# Altium footprint library BGA_CSP_LGA.PcbLib: 16 footprints
Each footprint in its own frame and in the unit in brackets; x right, y up, seen from the top. Pads: shape width x height; smd on the part's side, far side on the other; paste and mask are expansions set on the pad; w line width, h text height; cw(c..) or ccw(c..) is an arc to the next point about the centre after c.
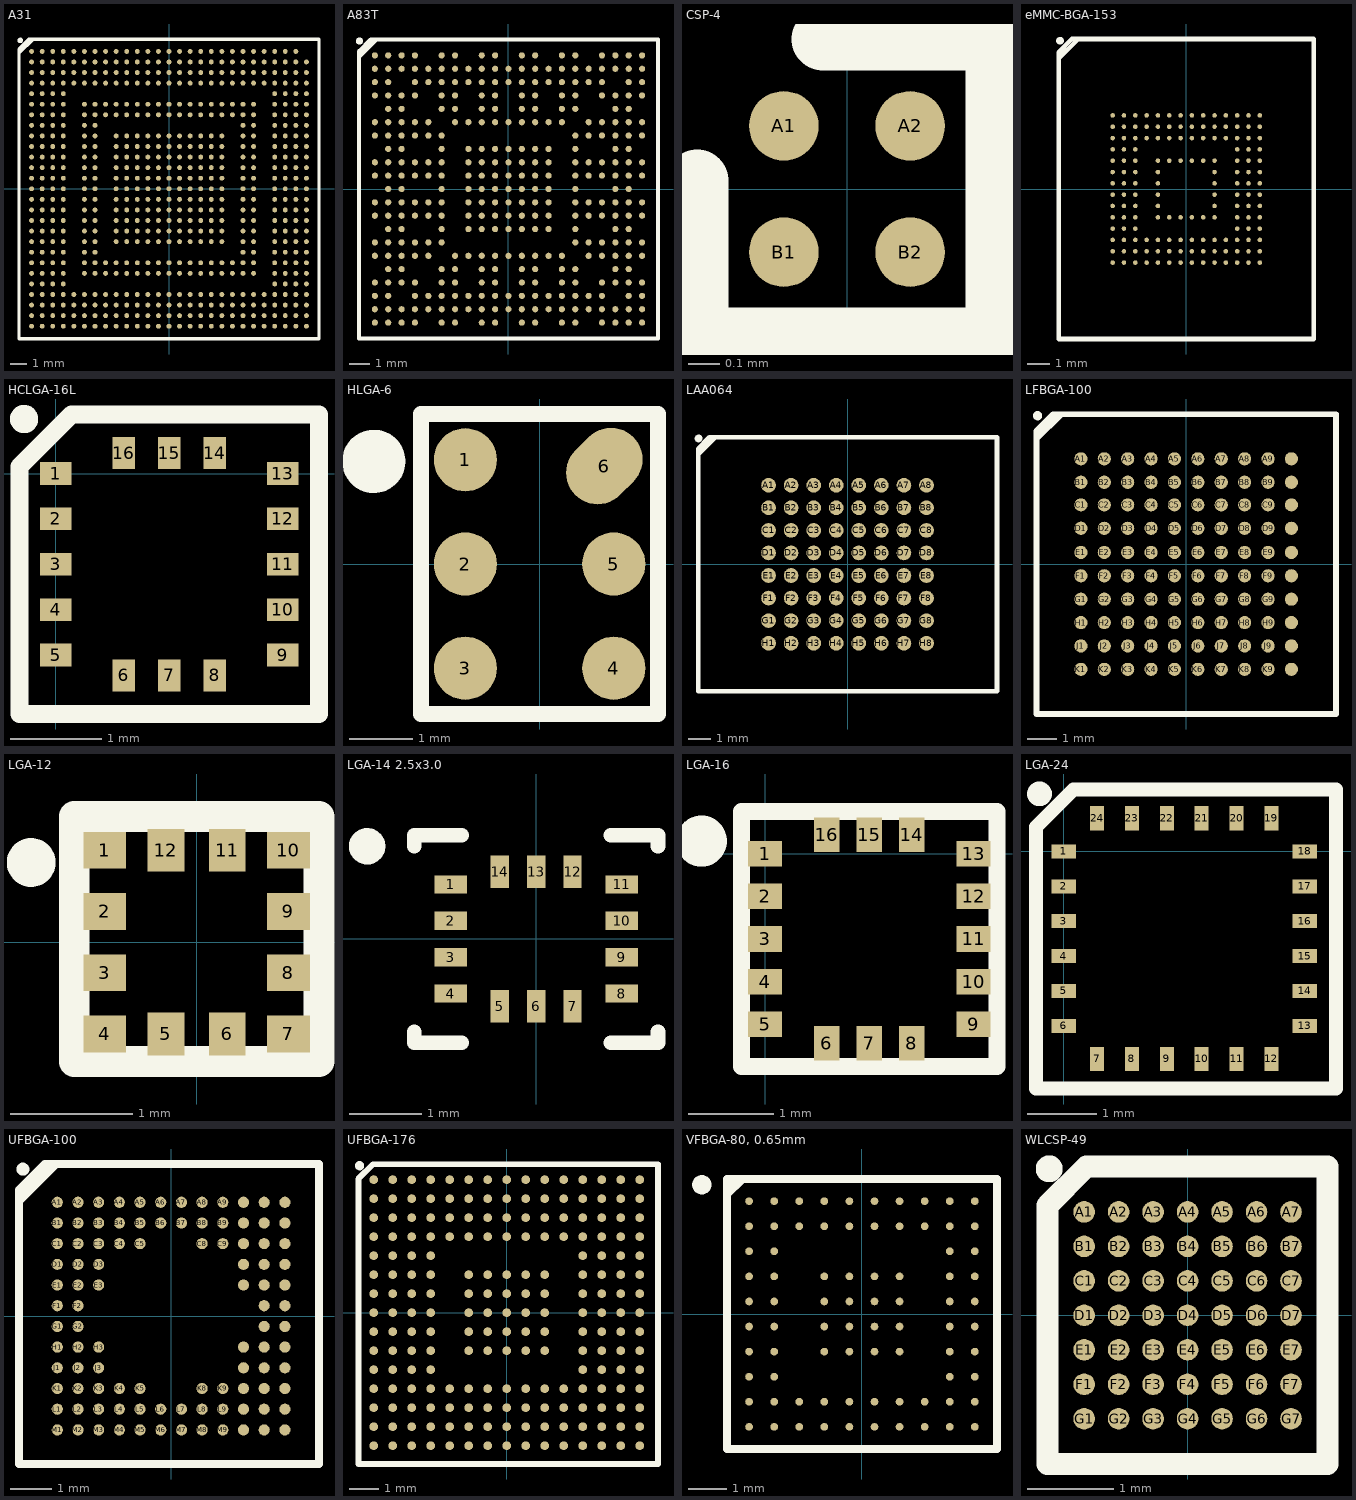
[diagram p0: the footprints below, top view; thin cyan lines are the x and y axes]

## A31 [mm]
pads (608):
  round 0.3 smd: A1(-8.45,8.45) A2(-7.8,8.45) A3(-7.15,8.45) A4(-6.5,8.45) A5(-5.85,8.45) A6(-5.2,8.45) A7(-4.55,8.45) A8(-3.9,8.45) A9(-3.25,8.45) A10(-2.6,8.45) A11(-1.95,8.45) A12(-1.3,8.45) A13(-0.65,8.45) A14(0,8.45) A15(0.65,8.45) A16(1.3,8.45) A17(1.95,8.45) A18(2.6,8.45) A19(3.25,8.45) A20(3.9,8.45) A21(4.55,8.45) A22(5.2,8.45) A23(5.85,8.45) A24(6.5,8.45) A25(7.15,8.45) A26(7.8,8.45) AA1(-8.45,-4.55) AA2(-7.8,-4.55) AA3(-7.15,-4.55) AA4(-6.5,-4.55) AA6(-5.2,-4.55) AA7(-4.55,-4.55) AA8(-3.9,-4.55) AA9(-3.25,-4.55) AA10(-2.6,-4.55) AA11(-1.95,-4.55) AA12(-1.3,-4.55) AA13(-0.65,-4.55) AA14(0,-4.55) AA15(0.65,-4.55) AA16(1.3,-4.55) AA17(1.95,-4.55) AA18(2.6,-4.55) AA19(3.25,-4.55) AA20(3.9,-4.55) AA21(4.55,-4.55) AA22(5.2,-4.55) AA24(6.5,-4.55) AA25(7.15,-4.55) AA26(7.8,-4.55) AA27(8.45,-4.55) AB1(-8.45,-5.2) AB2(-7.8,-5.2) AB3(-7.15,-5.2) AB4(-6.5,-5.2) AB6(-5.2,-5.2) AB7(-4.55,-5.2) AB8(-3.9,-5.2) AB9(-3.25,-5.2) AB10(-2.6,-5.2) AB11(-1.95,-5.2) AB12(-1.3,-5.2) AB13(-0.65,-5.2) AB14(0,-5.2) AB15(0.65,-5.2) AB16(1.3,-5.2) AB17(1.95,-5.2) AB18(2.6,-5.2) AB19(3.25,-5.2) AB20(3.9,-5.2) AB21(4.55,-5.2) AB22(5.2,-5.2) AB24(6.5,-5.2) AB25(7.15,-5.2) AB26(7.8,-5.2) AB27(8.45,-5.2) AC1(-8.45,-5.85) AC2(-7.8,-5.85) AC3(-7.15,-5.85) AC4(-6.5,-5.85) AC24(6.5,-5.85) AC25(7.15,-5.85) AC26(7.8,-5.85) AC27(8.45,-5.85) AD1(-8.45,-6.5) AD2(-7.8,-6.5) AD3(-7.15,-6.5) AD4(-6.5,-6.5) AD5(-5.85,-6.5) AD6(-5.2,-6.5) AD7(-4.55,-6.5) AD8(-3.9,-6.5) AD9(-3.25,-6.5) AD10(-2.6,-6.5) AD11(-1.95,-6.5) AD12(-1.3,-6.5) AD13(-0.65,-6.5) AD14(0,-6.5) AD15(0.65,-6.5) AD16(1.3,-6.5) AD17(1.95,-6.5) AD18(2.6,-6.5) AD19(3.25,-6.5) AD20(3.9,-6.5) AD21(4.55,-6.5) AD22(5.2,-6.5) AD23(5.85,-6.5) AD24(6.5,-6.5) AD25(7.15,-6.5) AD26(7.8,-6.5) AD27(8.45,-6.5) AE1(-8.45,-7.15) AE2(-7.8,-7.15) AE3(-7.15,-7.15) AE4(-6.5,-7.15) AE5(-5.85,-7.15) AE6(-5.2,-7.15) AE7(-4.55,-7.15) AE8(-3.9,-7.15) AE9(-3.25,-7.15) AE10(-2.6,-7.15) AE11(-1.95,-7.15) AE12(-1.3,-7.15) AE13(-0.65,-7.15) AE14(0,-7.15) AE15(0.65,-7.15) AE16(1.3,-7.15) AE17(1.95,-7.15) AE18(2.6,-7.15) AE19(3.25,-7.15) AE20(3.9,-7.15) AE21(4.55,-7.15) AE22(5.2,-7.15) AE23(5.85,-7.15) AE24(6.5,-7.15) AE25(7.15,-7.15) AE26(7.8,-7.15) AE27(8.45,-7.15) AF1(-8.45,-7.8) AF2(-7.8,-7.8) AF3(-7.15,-7.8) AF4(-6.5,-7.8) AF5(-5.85,-7.8) AF6(-5.2,-7.8) AF7(-4.55,-7.8) AF8(-3.9,-7.8) AF9(-3.25,-7.8) AF10(-2.6,-7.8) AF11(-1.95,-7.8) AF12(-1.3,-7.8) AF13(-0.65,-7.8) AF14(0,-7.8) AF15(0.65,-7.8) AF16(1.3,-7.8) AF17(1.95,-7.8) AF18(2.6,-7.8) AF19(3.25,-7.8) AF20(3.9,-7.8) AF21(4.55,-7.8) AF22(5.2,-7.8) AF23(5.85,-7.8) AF24(6.5,-7.8) AF25(7.15,-7.8) AF26(7.8,-7.8) AF27(8.45,-7.8) AG1(-8.45,-8.45) AG2(-7.8,-8.45) AG3(-7.15,-8.45) AG4(-6.5,-8.45) AG5(-5.85,-8.45) AG6(-5.2,-8.45) AG7(-4.55,-8.45) AG8(-3.9,-8.45) AG9(-3.25,-8.45) AG10(-2.6,-8.45) AG11(-1.95,-8.45) AG12(-1.3,-8.45) AG13(-0.65,-8.45) AG14(0,-8.45) AG15(0.65,-8.45) AG16(1.3,-8.45) AG17(1.95,-8.45) AG18(2.6,-8.45) AG19(3.25,-8.45) AG20(3.9,-8.45) AG21(4.55,-8.45) AG22(5.2,-8.45) AG23(5.85,-8.45) AG24(6.5,-8.45) AG25(7.15,-8.45) AG26(7.8,-8.45) AG27(8.45,-8.45) B1(-8.45,7.8) B2(-7.8,7.8) B3(-7.15,7.8) B4(-6.5,7.8) B5(-5.85,7.8) B6(-5.2,7.8) B7(-4.55,7.8) B8(-3.9,7.8) B9(-3.25,7.8) B10(-2.6,7.8) B11(-1.95,7.8) B12(-1.3,7.8) B13(-0.65,7.8) B14(0,7.8) B15(0.65,7.8) B16(1.3,7.8) B17(1.95,7.8) B18(2.6,7.8) B19(3.25,7.8) B20(3.9,7.8) B21(4.55,7.8) B22(5.2,7.8) B23(5.85,7.8) B24(6.5,7.8) B25(7.15,7.8) B26(7.8,7.8) B27(8.45,7.8) C1(-8.45,7.15) C2(-7.8,7.15) C3(-7.15,7.15) C4(-6.5,7.15) C5(-5.85,7.15) C6(-5.2,7.15) C7(-4.55,7.15) C8(-3.9,7.15) C9(-3.25,7.15) C10(-2.6,7.15) C11(-1.95,7.15) C12(-1.3,7.15) C13(-0.65,7.15) C14(0,7.15) C15(0.65,7.15) C16(1.3,7.15) C17(1.95,7.15) C18(2.6,7.15) C19(3.25,7.15) C20(3.9,7.15) C21(4.55,7.15) C22(5.2,7.15) C23(5.85,7.15) C24(6.5,7.15) C25(7.15,7.15) C26(7.8,7.15) C27(8.45,7.15) D1(-8.45,6.5) D2(-7.8,6.5) D3(-7.15,6.5) D4(-6.5,6.5) D5(-5.85,6.5) D6(-5.2,6.5) D7(-4.55,6.5) D8(-3.9,6.5) D9(-3.25,6.5) D10(-2.6,6.5) D11(-1.95,6.5) D12(-1.3,6.5) D13(-0.65,6.5) D14(0,6.5) D15(0.65,6.5) D16(1.3,6.5) D17(1.95,6.5) D18(2.6,6.5) D19(3.25,6.5) D20(3.9,6.5) D21(4.55,6.5) D22(5.2,6.5) D23(5.85,6.5) D24(6.5,6.5) D25(7.15,6.5) D26(7.8,6.5) D27(8.45,6.5) E1(-8.45,5.85) E2(-7.8,5.85) E3(-7.15,5.85) E4(-6.5,5.85) E24(6.5,5.85) E25(7.15,5.85) E26(7.8,5.85) E27(8.45,5.85) F1(-8.45,5.2) F2(-7.8,5.2) F3(-7.15,5.2) F4(-6.5,5.2) F6(-5.2,5.2) F7(-4.55,5.2) F8(-3.9,5.2) F9(-3.25,5.2) F10(-2.6,5.2) F11(-1.95,5.2) F12(-1.3,5.2) F13(-0.65,5.2) F14(0,5.2) F15(0.65,5.2) F16(1.3,5.2) F17(1.95,5.2) F18(2.6,5.2) F19(3.25,5.2) F20(3.9,5.2) F21(4.55,5.2) F22(5.2,5.2) F24(6.5,5.2) F25(7.15,5.2) F26(7.8,5.2) F27(8.45,5.2) G1(-8.45,4.55) G2(-7.8,4.55) G3(-7.15,4.55) G4(-6.5,4.55) G6(-5.2,4.55) G7(-4.55,4.55) G8(-3.9,4.55) G9(-3.25,4.55) G10(-2.6,4.55) G11(-1.95,4.55) G12(-1.3,4.55) G13(-0.65,4.55) G14(0,4.55) G15(0.65,4.55) G16(1.3,4.55) G17(1.95,4.55) G18(2.6,4.55) G19(3.25,4.55) G20(3.9,4.55) G21(4.55,4.55) G22(5.2,4.55) G24(6.5,4.55) G25(7.15,4.55) G26(7.8,4.55) G27(8.45,4.55) H1(-8.45,3.9) H2(-7.8,3.9) H3(-7.15,3.9) H4(-6.5,3.9) H6(-5.2,3.9) H7(-4.55,3.9) H21(4.55,3.9) H22(5.2,3.9) H24(6.5,3.9) H25(7.15,3.9) H26(7.8,3.9) H27(8.45,3.9) J1(-8.45,3.25) J2(-7.8,3.25) J3(-7.15,3.25) J4(-6.5,3.25) J6(-5.2,3.25) J7(-4.55,3.25) J9(-3.25,3.25) J10(-2.6,3.25) J11(-1.95,3.25) J12(-1.3,3.25) J13(-0.65,3.25) J14(0,3.25) J15(0.65,3.25) J16(1.3,3.25) J17(1.95,3.25) J18(2.6,3.25) J19(3.25,3.25) J21(4.55,3.25) J22(5.2,3.25) J24(6.5,3.25) J25(7.15,3.25) J26(7.8,3.25) J27(8.45,3.25) K1(-8.45,2.6) K2(-7.8,2.6) K3(-7.15,2.6) K4(-6.5,2.6) K6(-5.2,2.6) K7(-4.55,2.6) K9(-3.25,2.6) K10(-2.6,2.6) K11(-1.95,2.6) K12(-1.3,2.6) K13(-0.65,2.6) K14(0,2.6) K15(0.65,2.6) K16(1.3,2.6) K17(1.95,2.6) K18(2.6,2.6) K19(3.25,2.6) K21(4.55,2.6) K22(5.2,2.6) K24(6.5,2.6) K25(7.15,2.6) K26(7.8,2.6) K27(8.45,2.6) L1(-8.45,1.95) L2(-7.8,1.95) L3(-7.15,1.95) L4(-6.5,1.95) L6(-5.2,1.95) L7(-4.55,1.95) L9(-3.25,1.95) L10(-2.6,1.95) L11(-1.95,1.95) L12(-1.3,1.95) L13(-0.65,1.95) L14(0,1.95) L15(0.65,1.95) L16(1.3,1.95) L17(1.95,1.95) L18(2.6,1.95) L19(3.25,1.95) L21(4.55,1.95) L22(5.2,1.95) L24(6.5,1.95) L25(7.15,1.95) L26(7.8,1.95) L27(8.45,1.95) M1(-8.45,1.3) M2(-7.8,1.3) M3(-7.15,1.3) M4(-6.5,1.3) M6(-5.2,1.3) M7(-4.55,1.3) M9(-3.25,1.3) M10(-2.6,1.3) M11(-1.95,1.3) M12(-1.3,1.3) M13(-0.65,1.3) M14(0,1.3) M15(0.65,1.3) M16(1.3,1.3) M17(1.95,1.3) M18(2.6,1.3) M19(3.25,1.3) M21(4.55,1.3) M22(5.2,1.3) M24(6.5,1.3) M25(7.15,1.3) M26(7.8,1.3) M27(8.45,1.3) N1(-8.45,0.65) N2(-7.8,0.65) N3(-7.15,0.65) N4(-6.5,0.65) N6(-5.2,0.65) N7(-4.55,0.65) N9(-3.25,0.65) N10(-2.6,0.65) N11(-1.95,0.65) N12(-1.3,0.65) N13(-0.65,0.65) N14(0,0.65) N15(0.65,0.65) N16(1.3,0.65) N17(1.95,0.65) N18(2.6,0.65) N19(3.25,0.65) N21(4.55,0.65) N22(5.2,0.65) N24(6.5,0.65) N25(7.15,0.65) N26(7.8,0.65) N27(8.45,0.65) P1(-8.45,0) P2(-7.8,0) P3(-7.15,0) P4(-6.5,0) P6(-5.2,0) P7(-4.55,0) P9(-3.25,0) P10(-2.6,0) P11(-1.95,0) P12(-1.3,0) P13(-0.65,0) P14(0,0) P15(0.65,0) P16(1.3,0) P17(1.95,0) P18(2.6,0) P19(3.25,0) P21(4.55,0) P22(5.2,0) P24(6.5,0) P25(7.15,0) P26(7.8,0) P27(8.45,0) R1(-8.45,-0.65) R2(-7.8,-0.65) R3(-7.15,-0.65) R4(-6.5,-0.65) R6(-5.2,-0.65) R7(-4.55,-0.65) R9(-3.25,-0.65) R10(-2.6,-0.65) R11(-1.95,-0.65) R12(-1.3,-0.65) R13(-0.65,-0.65) R14(0,-0.65) R15(0.65,-0.65) R16(1.3,-0.65) R17(1.95,-0.65) R18(2.6,-0.65) R19(3.25,-0.65) R21(4.55,-0.65) R22(5.2,-0.65) R24(6.5,-0.65) R25(7.15,-0.65) R26(7.8,-0.65) R27(8.45,-0.65) T1(-8.45,-1.3) T2(-7.8,-1.3) T3(-7.15,-1.3) T4(-6.5,-1.3) T6(-5.2,-1.3) T7(-4.55,-1.3) T9(-3.25,-1.3) T10(-2.6,-1.3) T11(-1.95,-1.3) T12(-1.3,-1.3) T13(-0.65,-1.3) T14(0,-1.3) T15(0.65,-1.3) T16(1.3,-1.3) T17(1.95,-1.3) T18(2.6,-1.3) T19(3.25,-1.3) T21(4.55,-1.3) T22(5.2,-1.3) T24(6.5,-1.3) T25(7.15,-1.3) T26(7.8,-1.3) T27(8.45,-1.3) U1(-8.45,-1.95) U2(-7.8,-1.95) U3(-7.15,-1.95) U4(-6.5,-1.95) U6(-5.2,-1.95) U7(-4.55,-1.95) U9(-3.25,-1.95) U10(-2.6,-1.95) U11(-1.95,-1.95) U12(-1.3,-1.95) U13(-0.65,-1.95) U14(0,-1.95) U15(0.65,-1.95) U16(1.3,-1.95) U17(1.95,-1.95) U18(2.6,-1.95) U19(3.25,-1.95) U21(4.55,-1.95) U22(5.2,-1.95) U24(6.5,-1.95) U25(7.15,-1.95) U26(7.8,-1.95) U27(8.45,-1.95) V1(-8.45,-2.6) V2(-7.8,-2.6) V3(-7.15,-2.6) V4(-6.5,-2.6) V6(-5.2,-2.6) V7(-4.55,-2.6) V9(-3.25,-2.6) V10(-2.6,-2.6) V11(-1.95,-2.6) V12(-1.3,-2.6) V13(-0.65,-2.6) V14(0,-2.6) V15(0.65,-2.6) V16(1.3,-2.6) V17(1.95,-2.6) V18(2.6,-2.6) V19(3.25,-2.6) V21(4.55,-2.6) V22(5.2,-2.6) V24(6.5,-2.6) V25(7.15,-2.6) V26(7.8,-2.6) V27(8.45,-2.6) W1(-8.45,-3.25) W2(-7.8,-3.25) W3(-7.15,-3.25) W4(-6.5,-3.25) W6(-5.2,-3.25) W7(-4.55,-3.25) W9(-3.25,-3.25) W10(-2.6,-3.25) W11(-1.95,-3.25) W12(-1.3,-3.25) W13(-0.65,-3.25) W14(0,-3.25) W15(0.65,-3.25) W16(1.3,-3.25) W17(1.95,-3.25) W18(2.6,-3.25) W19(3.25,-3.25) W21(4.55,-3.25) W22(5.2,-3.25) W24(6.5,-3.25) W25(7.15,-3.25) W26(7.8,-3.25) W27(8.45,-3.25) Y1(-8.45,-3.9) Y2(-7.8,-3.9) Y3(-7.15,-3.9) Y4(-6.5,-3.9) Y6(-5.2,-3.9) Y7(-4.55,-3.9) Y21(4.55,-3.9) Y22(5.2,-3.9) Y24(6.5,-3.9) Y25(7.15,-3.9) Y26(7.8,-3.9) Y27(8.45,-3.9)
Top Overlay:
  circle w0.2: c-9.15,9.125 r0.071
  lines w0.2: -9.225,8.6 -9.225,-9.225 9.225,-9.225 9.225,9.2 -8.625,9.2 -9.2,8.625 ; -9.2,8.35 -8.35,9.2
3D body: height 1.2, standoff 0, extent -9.1,-9.1 9.1,9.1

## A83T [mm]
pads (345):
  round 0.3 smd: A1(-6.5,6.5) A2(-5.85,6.5) A3(-5.2,6.5) A4(-4.55,6.5) A6(-3.25,6.5) A7(-2.6,6.5) A9(-1.3,6.5) A10(-0.65,6.5) A12(0.65,6.5) A13(1.3,6.5) A15(2.6,6.5) A16(3.25,6.5) A18(4.55,6.5) A19(5.2,6.5) A20(5.85,6.5) A21(6.5,6.5) AA1(-6.5,-6.5) AA2(-5.85,-6.5) AA3(-5.2,-6.5) AA4(-4.55,-6.5) AA6(-3.25,-6.5) AA7(-2.6,-6.5) AA9(-1.3,-6.5) AA10(-0.65,-6.5) AA12(0.65,-6.5) AA13(1.3,-6.5) AA15(2.6,-6.5) AA16(3.25,-6.5) AA18(4.55,-6.5) AA19(5.2,-6.5) AA20(5.85,-6.5) AA21(6.5,-6.5) B1(-6.5,5.85) B2(-5.85,5.85) B3(-5.2,5.85) B4(-4.55,5.85) B5(-3.9,5.85) B6(-3.25,5.85) B7(-2.6,5.85) B8(-1.95,5.85) B9(-1.3,5.85) B10(-0.65,5.85) B11(0,5.85) B12(0.65,5.85) B13(1.3,5.85) B14(1.95,5.85) B15(2.6,5.85) B16(3.25,5.85) B17(3.9,5.85) B18(4.55,5.85) B19(5.2,5.85) B20(5.85,5.85) B21(6.5,5.85) C1(-6.5,5.2) C2(-5.85,5.2) C4(-4.55,5.2) C5(-3.9,5.2) C6(-3.25,5.2) C7(-2.6,5.2) C8(-1.95,5.2) C9(-1.3,5.2) C10(-0.65,5.2) C11(0,5.2) C12(0.65,5.2) C13(1.3,5.2) C14(1.95,5.2) C15(2.6,5.2) C16(3.25,5.2) C17(3.9,5.2) C18(4.55,5.2) C20(5.85,5.2) C21(6.5,5.2) D1(-6.5,4.55) D2(-5.85,4.55) D3(-5.2,4.55) D4(-4.55,4.55) D6(-3.25,4.55) D7(-2.6,4.55) D9(-1.3,4.55) D10(-0.65,4.55) D12(0.65,4.55) D13(1.3,4.55) D15(2.6,4.55) D16(3.25,4.55) D18(4.55,4.55) D19(5.2,4.55) D20(5.85,4.55) D21(6.5,4.55) E2(-5.85,3.9) E3(-5.2,3.9) E6(-3.25,3.9) E7(-2.6,3.9) E9(-1.3,3.9) E10(-0.65,3.9) E12(0.65,3.9) E13(1.3,3.9) E15(2.6,3.9) E16(3.25,3.9) E19(5.2,3.9) E20(5.85,3.9) F1(-6.5,3.25) F2(-5.85,3.25) F3(-5.2,3.25) F4(-4.55,3.25) F5(-3.9,3.25) F7(-2.6,3.25) F8(-1.95,3.25) F9(-1.3,3.25) F10(-0.65,3.25) F11(0,3.25) F12(0.65,3.25) F13(1.3,3.25) F14(1.95,3.25) F15(2.6,3.25) F17(3.9,3.25) F18(4.55,3.25) F19(5.2,3.25) F20(5.85,3.25) F21(6.5,3.25) G1(-6.5,2.6) G2(-5.85,2.6) G3(-5.2,2.6) G4(-4.55,2.6) G5(-3.9,2.6) G6(-3.25,2.6) G16(3.25,2.6) G17(3.9,2.6) G18(4.55,2.6) G19(5.2,2.6) G20(5.85,2.6) G21(6.5,2.6) H2(-5.85,1.95) H3(-5.2,1.95) H6(-3.25,1.95) H8(-1.95,1.95) H9(-1.3,1.95) H10(-0.65,1.95) H11(0,1.95) H12(0.65,1.95) H13(1.3,1.95) H14(1.95,1.95) H16(3.25,1.95) H19(5.2,1.95) H20(5.85,1.95) J1(-6.5,1.3) J2(-5.85,1.3) J3(-5.2,1.3) J4(-4.55,1.3) J5(-3.9,1.3) J6(-3.25,1.3) J8(-1.95,1.3) J9(-1.3,1.3) J10(-0.65,1.3) J11(0,1.3) J12(0.65,1.3) J13(1.3,1.3) J14(1.95,1.3) J16(3.25,1.3) J17(3.9,1.3) J18(4.55,1.3) J19(5.2,1.3) J20(5.85,1.3) J21(6.5,1.3) K1(-6.5,0.65) K2(-5.85,0.65) K3(-5.2,0.65) K4(-4.55,0.65) K5(-3.9,0.65) K6(-3.25,0.65) K8(-1.95,0.65) K9(-1.3,0.65) K10(-0.65,0.65) K11(0,0.65) K12(0.65,0.65) K13(1.3,0.65) K14(1.95,0.65) K16(3.25,0.65) K17(3.9,0.65) K18(4.55,0.65) K19(5.2,0.65) K20(5.85,0.65) K21(6.5,0.65) L2(-5.85,0) L3(-5.2,0) L6(-3.25,0) L8(-1.95,0) L9(-1.3,0) L10(-0.65,0) L11(0,0) L12(0.65,0) L13(1.3,0) L14(1.95,0) L16(3.25,0) L19(5.2,0) L20(5.85,0) M1(-6.5,-0.65) M2(-5.85,-0.65) M3(-5.2,-0.65) M4(-4.55,-0.65) M5(-3.9,-0.65) M6(-3.25,-0.65) M8(-1.95,-0.65) M9(-1.3,-0.65) M10(-0.65,-0.65) M11(0,-0.65) M12(0.65,-0.65) M13(1.3,-0.65) M14(1.95,-0.65) M16(3.25,-0.65) M17(3.9,-0.65) M18(4.55,-0.65) M19(5.2,-0.65) M20(5.85,-0.65) M21(6.5,-0.65) N1(-6.5,-1.3) N2(-5.85,-1.3) N3(-5.2,-1.3) N4(-4.55,-1.3) N5(-3.9,-1.3) N6(-3.25,-1.3) N8(-1.95,-1.3) N9(-1.3,-1.3) N10(-0.65,-1.3) N11(0,-1.3) N12(0.65,-1.3) N13(1.3,-1.3) N14(1.95,-1.3) N16(3.25,-1.3) N17(3.9,-1.3) N18(4.55,-1.3) N19(5.2,-1.3) N20(5.85,-1.3) N21(6.5,-1.3) P2(-5.85,-1.95) P3(-5.2,-1.95) P6(-3.25,-1.95) P8(-1.95,-1.95) P9(-1.3,-1.95) P10(-0.65,-1.95) P11(0,-1.95) P12(0.65,-1.95) P13(1.3,-1.95) P14(1.95,-1.95) P16(3.25,-1.95) P19(5.2,-1.95) P20(5.85,-1.95) R1(-6.5,-2.6) R2(-5.85,-2.6) R3(-5.2,-2.6) R4(-4.55,-2.6) R5(-3.9,-2.6) R6(-3.25,-2.6) R16(3.25,-2.6) R17(3.9,-2.6) R18(4.55,-2.6) R19(5.2,-2.6) R20(5.85,-2.6) R21(6.5,-2.6) T1(-6.5,-3.25) T2(-5.85,-3.25) T3(-5.2,-3.25) T4(-4.55,-3.25) T5(-3.9,-3.25) T7(-2.6,-3.25) T8(-1.95,-3.25) T9(-1.3,-3.25) T10(-0.65,-3.25) T11(0,-3.25) T12(0.65,-3.25) T13(1.3,-3.25) T14(1.95,-3.25) T15(2.6,-3.25) T17(3.9,-3.25) T18(4.55,-3.25) T19(5.2,-3.25) T20(5.85,-3.25) T21(6.5,-3.25) U2(-5.85,-3.9) U3(-5.2,-3.9) U6(-3.25,-3.9) U7(-2.6,-3.9) U9(-1.3,-3.9) U10(-0.65,-3.9) U12(0.65,-3.9) U13(1.3,-3.9) U15(2.6,-3.9) U16(3.25,-3.9) U19(5.2,-3.9) U20(5.85,-3.9) V1(-6.5,-4.55) V2(-5.85,-4.55) V3(-5.2,-4.55) V4(-4.55,-4.55) V6(-3.25,-4.55) V7(-2.6,-4.55) V9(-1.3,-4.55) V10(-0.65,-4.55) V12(0.65,-4.55) V13(1.3,-4.55) V15(2.6,-4.55) V16(3.25,-4.55) V18(4.55,-4.55) V19(5.2,-4.55) V20(5.85,-4.55) V21(6.5,-4.55) W1(-6.5,-5.2) W2(-5.85,-5.2) W4(-4.55,-5.2) W5(-3.9,-5.2) W6(-3.25,-5.2) W7(-2.6,-5.2) W8(-1.95,-5.2) W9(-1.3,-5.2) W10(-0.65,-5.2) W11(0,-5.2) W12(0.65,-5.2) W13(1.3,-5.2) W14(1.95,-5.2) W15(2.6,-5.2) W16(3.25,-5.2) W17(3.9,-5.2) W18(4.55,-5.2) W20(5.85,-5.2) W21(6.5,-5.2) Y1(-6.5,-5.85) Y2(-5.85,-5.85) Y3(-5.2,-5.85) Y4(-4.55,-5.85) Y5(-3.9,-5.85) Y6(-3.25,-5.85) Y7(-2.6,-5.85) Y8(-1.95,-5.85) Y9(-1.3,-5.85) Y10(-0.65,-5.85) Y11(0,-5.85) Y12(0.65,-5.85) Y13(1.3,-5.85) Y14(1.95,-5.85) Y15(2.6,-5.85) Y16(3.25,-5.85) Y17(3.9,-5.85) Y18(4.55,-5.85) Y19(5.2,-5.85) Y20(5.85,-5.85) Y21(6.5,-5.85)
Top Overlay:
  circle w0.2: c-7.25,7.2 r0.071
  lines w0.2: -7.275,6.425 -6.425,7.275 ; -7.275,-7.275 -7.275,6.7 -6.7,7.275 7.275,7.275 7.275,-7.275 -7.275,-7.275
3D body: height 1, standoff 0, extent -7.15,-7.15 7.15,7.15

## CSP-4 [mm]
pads (4):
  round 0.22 smd paste+0: A1(-0.2,0.2) A2(0.2,0.2) B1(-0.2,-0.2) B2(0.2,-0.2)
Top Overlay:
  lines w0.2: -0.475,0.025 -0.475,-0.475 0.475,-0.475 0.475,0.475 -0.075,0.475
3D body: height 0.4, standoff 0, extent -0.35,-0.35 0.35,0.35

## eMMC-BGA-153 [mm]
pads (152):
  round 0.2 smd: A1(-3.25,3.25) A2(-2.75,3.25) A3(-2.25,3.25) A4(-1.75,3.25) A5(-1.25,3.25) A6(-0.75,3.25) A7(-0.25,3.25) A8(0.25,3.25) A9(0.75,3.25) A10(1.25,3.25) A11(1.75,3.25) A12(2.25,3.25) A13(2.75,3.25) A14(3.25,3.25) B1(-3.25,2.75) B2(-2.75,2.75) B3(-2.25,2.75) B4(-1.75,2.75) B5(-1.25,2.75) B6(-0.75,2.75) B7(-0.25,2.75) B8(0.25,2.75) B9(0.75,2.75) B10(1.25,2.75) B11(1.75,2.75) B12(2.25,2.75) B13(2.75,2.75) B14(3.25,2.75) C1(-3.25,2.25) C2(-2.75,2.25) C3(-2.25,2.25) C4(-1.75,2.25) C5(-1.25,2.25) C6(-0.75,2.25) C7(-0.25,2.25) C8(0.25,2.25) C9(0.75,2.25) C10(1.25,2.25) C11(1.75,2.25) C12(2.25,2.25) C13(2.75,2.25) C14(3.25,2.25) D1(-3.25,1.75) D2(-2.75,1.75) D3(-2.25,1.75) D12(2.25,1.75) D13(2.75,1.75) D14(3.25,1.75) E1(-3.25,1.25) E2(-2.75,1.25) E3(-2.25,1.25) E5(-1.25,1.25) E6(-0.75,1.25) E7(-0.25,1.25) E8(0.25,1.25) E9(0.75,1.25) E10(1.25,1.25) E12(2.25,1.25) E13(2.75,1.25) E14(3.25,1.25) F1(-3.25,0.75) F2(-2.75,0.75) F3(-2.25,0.75) F5(-1.25,0.75) F10(1.25,0.75) F12(2.25,0.75) F13(2.75,0.75) F14(3.25,0.75) G1(-3.25,0.25) G2(-2.75,0.25) G3(-2.25,0.25) G5(-1.25,0.25) G10(1.25,0.25) G12(2.25,0.25) G13(2.75,0.25) G14(3.25,0.25) H1(-3.25,-0.25) H2(-2.75,-0.25) H3(-2.25,-0.25) H5(-1.25,-0.25) H10(1.25,-0.25) H12(2.25,-0.25) H13(2.75,-0.25) H14(3.25,-0.25) J1(-3.25,-0.75) J2(-2.75,-0.75) J3(-2.25,-0.75) J5(-1.25,-0.75) J10(1.25,-0.75) J12(2.25,-0.75) J13(2.75,-0.75) J14(3.25,-0.75) K1(-3.25,-1.25) K2(-2.75,-1.25) K3(-2.25,-1.25) K5(-1.25,-1.25) K6(-0.75,-1.25) K7(-0.25,-1.25) K8(0.25,-1.25) K9(0.75,-1.25) K10(1.25,-1.25) K12(2.25,-1.25) K13(2.75,-1.25) K14(3.25,-1.25) L1(-3.25,-1.75) L2(-2.75,-1.75) L3(-2.25,-1.75) L12(2.25,-1.75) L13(2.75,-1.75) L14(3.25,-1.75) M1(-3.25,-2.25) M2(-2.75,-2.25) M3(-2.25,-2.25) M4(-1.75,-2.25) M5(-1.25,-2.25) M6(-0.75,-2.25) M7(-0.25,-2.25) M8(0.25,-2.25) M9(0.75,-2.25) M10(1.25,-2.25) M11(1.75,-2.25) M12(2.25,-2.25) M13(2.75,-2.25) M14(3.25,-2.25) N1(-3.25,-2.75) N2(-2.75,-2.75) N3(-2.25,-2.75) N4(-1.75,-2.75) N5(-1.25,-2.75) N6(-0.75,-2.75) N7(-0.25,-2.75) N8(0.25,-2.75) N9(0.75,-2.75) N10(1.25,-2.75) N11(1.75,-2.75) N12(2.25,-2.75) N13(2.75,-2.75) N14(3.25,-2.75) P1(-3.25,-3.25) P2(-2.75,-3.25) P3(-2.25,-3.25) P4(-1.75,-3.25) P5(-1.25,-3.25) P6(-0.75,-3.25) P7(-0.25,-3.25) P8(0.25,-3.25) P9(0.75,-3.25) P10(1.25,-3.25) P11(1.75,-3.25) P12(2.25,-3.25) P13(2.75,-3.25) P14(3.25,-3.25)
Top Overlay:
  circle w0.2: c-5.575,6.55 r0.071
  lines w0.2: -5.625,5.775 -4.775,6.625 ; -5.625,-6.625 5.625,-6.625 5.625,6.625 -5.05,6.625 -5.625,6.05 -5.625,-6.625
3D body: height 1.4, standoff 0, extent -5.5,-6.5 5.5,6.5

## HCLGA-16L [mm]
pads (16):
  rect 0.35x0.25 smd: 1(0,0) 2(0,-0.5) 3(0,-1) 4(0,-1.5) 5(0,-2) 9(2.5,-2) 10(2.5,-1.5) 11(2.5,-1) 12(2.5,-0.5) 13(2.5,0)
  rect 0.25x0.35 smd: 6(0.75,-2.225) 7(1.25,-2.225) 8(1.75,-2.225) 14(1.75,0.225) 15(1.25,0.225) 16(0.75,0.225)
Top Overlay:
  circle w0.2: c-0.35,0.6 r0.056
  lines w0.2: -0.4,-2.65 2.9,-2.65 2.9,0.65 0.175,0.65 -0.4,0.075 -0.4,-2.65
3D body: height 1.01, standoff -0.01, extent -0.25,-2.5 2.75,0.5

## HLGA-6 [mm]
pads (6):
  round 1 smd: 1(-1.175,1.65) 2(-1.175,0) 3(-1.175,-1.65) 4(1.175,-1.65) 5(1.175,0)
  oval 1x1.3 smd rot 135: 6(1.025,1.55)
Top Overlay:
  circle w0.5: c-2.625,1.625 r0.25
  lines w0.254: -1.875,-2.375 1.875,-2.375 1.875,2.375 -1.875,2.375 -1.875,-2.375
3D body: height 0.8, standoff 0, extent -1.875,-2.35 1.875,2.375

## LAA064 [mm]
pads (64):
  round 0.65 smd: A1(-3.5,3.5) A2(-2.5,3.5) A3(-1.5,3.5) A4(-0.5,3.5) A5(0.5,3.5) A6(1.5,3.5) A7(2.5,3.5) A8(3.5,3.5) B1(-3.5,2.5) B2(-2.5,2.5) B3(-1.5,2.5) B4(-0.5,2.5) B5(0.5,2.5) B6(1.5,2.5) B7(2.5,2.5) B8(3.5,2.5) C1(-3.5,1.5) C2(-2.5,1.5) C3(-1.5,1.5) C4(-0.5,1.5) C5(0.5,1.5) C6(1.5,1.5) C7(2.5,1.5) C8(3.5,1.5) D1(-3.5,0.5) D2(-2.5,0.5) D3(-1.5,0.5) D4(-0.5,0.5) D5(0.5,0.5) D6(1.5,0.5) D7(2.5,0.5) D8(3.5,0.5) E1(-3.5,-0.5) E2(-2.5,-0.5) E3(-1.5,-0.5) E4(-0.5,-0.5) E5(0.5,-0.5) E6(1.5,-0.5) E7(2.5,-0.5) E8(3.5,-0.5) F1(-3.5,-1.5) F2(-2.5,-1.5) F3(-1.5,-1.5) F4(-0.5,-1.5) F5(0.5,-1.5) F6(1.5,-1.5) F7(2.5,-1.5) F8(3.5,-1.5) G1(-3.5,-2.5) G2(-2.5,-2.5) G3(-1.5,-2.5) G4(-0.5,-2.5) G5(0.5,-2.5) G6(1.5,-2.5) G7(2.5,-2.5) G8(3.5,-2.5) H1(-3.5,-3.5) H2(-2.5,-3.5) H3(-1.5,-3.5) H4(-0.5,-3.5) H5(0.5,-3.5) H6(1.5,-3.5) H7(2.5,-3.5) H8(3.5,-3.5)
Top Overlay:
  circle w0.2: c-6.6,5.575 r0.071
  lines w0.2: -6.625,4.85 -5.85,5.625 ; -6.625,-5.625 6.625,-5.625 6.625,5.625 -6.125,5.625 -6.625,5.125 -6.625,-5.625
3D body: height 0.8, standoff 0, extent -6.5,-5.5 6.5,5.5

## LFBGA-100 [mm] "10x10mm 0.8mm"
pads (100):
  round 0.45 smd: A1(-3.6,3.6) A2(-2.8,3.6) A3(-2,3.6) A4(-1.2,3.6) A5(-0.4,3.6) A6(0.4,3.6) A7(1.2,3.6) A8(2,3.6) A9(2.8,3.6) A10(3.6,3.6) B1(-3.6,2.8) B2(-2.8,2.8) B3(-2,2.8) B4(-1.2,2.8) B5(-0.4,2.8) B6(0.4,2.8) B7(1.2,2.8) B8(2,2.8) B9(2.8,2.8) B10(3.6,2.8) C1(-3.6,2.025) C2(-2.8,2.025) C3(-2,2.025) C4(-1.2,2.025) C5(-0.4,2.025) C6(0.4,2.025) C7(1.2,2.025) C8(2,2.025) C9(2.8,2.025) C10(3.6,2.025) D1(-3.6,1.225) D2(-2.8,1.225) D3(-2,1.225) D4(-1.2,1.225) D5(-0.4,1.225) D6(0.4,1.225) D7(1.2,1.225) D8(2,1.225) D9(2.8,1.225) D10(3.6,1.225) E1(-3.6,0.4) E2(-2.8,0.4) E3(-2,0.4) E4(-1.2,0.4) E5(-0.4,0.4) E6(0.4,0.4) E7(1.2,0.4) E8(2,0.4) E9(2.8,0.4) E10(3.6,0.4) F1(-3.6,-0.4) F2(-2.8,-0.4) F3(-2,-0.4) F4(-1.2,-0.4) F5(-0.4,-0.4) F6(0.4,-0.4) F7(1.2,-0.4) F8(2,-0.4) F9(2.8,-0.4) F10(3.6,-0.4) G1(-3.6,-1.2) G2(-2.8,-1.2) G3(-2,-1.2) G4(-1.2,-1.2) G5(-0.4,-1.2) G6(0.4,-1.2) G7(1.2,-1.2) G8(2,-1.2) G9(2.8,-1.2) G10(3.6,-1.2) H1(-3.6,-2) H2(-2.8,-2) H3(-2,-2) H4(-1.2,-2) H5(-0.4,-2) H6(0.4,-2) H7(1.2,-2) H8(2,-2) H9(2.8,-2) H10(3.6,-2) J1(-3.6,-2.8) J2(-2.8,-2.8) J3(-2,-2.8) J4(-1.2,-2.8) J5(-0.4,-2.8) J6(0.4,-2.8) J7(1.2,-2.8) J8(2,-2.8) J9(2.8,-2.8) J10(3.6,-2.8) K1(-3.6,-3.6) K2(-2.8,-3.6) K3(-2,-3.6) K4(-1.2,-3.6) K5(-0.4,-3.6) K6(0.4,-3.6) K7(1.2,-3.6) K8(2,-3.6) K9(2.8,-3.6) K10(3.6,-3.6)
Top Overlay:
  circle w0.2: c-5.081,5.075 r0.056
  lines w0.2: -5.125,4.25 -5.125,4.275 -4.275,5.125 ; -5.125,-5.125 5.125,-5.125 5.125,5.125 -4.55,5.125 -5.125,4.55 -5.125,-5.125
3D body: height 0.8, standoff 0, extent -5,-5 5,5

## LGA-12 [mm]
pads (12):
  rect 0.35x0.3 smd: 1(-0.75,0.75) 2(-0.75,0.25) 3(-0.75,-0.25) 4(-0.75,-0.75) 7(0.75,-0.75) 8(0.75,-0.25) 9(0.75,0.25) 10(0.75,0.75)
  rect 0.3x0.35 smd: 5(-0.25,-0.75) 6(0.25,-0.75) 11(0.25,0.75) 12(-0.25,0.75)
Top Overlay:
  circle w0.2: c-1.35,0.65 r0.1
  lines w0.25: -1,-0.975 1,-0.975 1,1.025 -1,1.025 -1,-0.975
3D body: height 1, standoff 0, extent -1.1,-1.05 1.05,1.1

## LGA-14 2.5x3.0 [mm] "LGA, 14-Leads, Body 3,00x2,50mm, Pitch 0,50mm"
height 0.86
pads (14):
  rect 0.45x0.25 smd: 1(-1.175,0.75) 2(-1.175,0.25) 3(-1.175,-0.25) 4(-1.175,-0.75) 8(1.175,-0.75) 9(1.175,-0.25) 10(1.175,0.25) 11(1.175,0.75)
  rect 0.25x0.45 smd: 5(-0.5,-0.925) 6(0,-0.925) 7(0.5,-0.925) 12(0.5,0.925) 13(0,0.925) 14(-0.5,0.925)
Top Overlay:
  circle w0.25: c-2.325,1.275 r0.125
  lines w0.2: -1.675,-1.275 -1.675,-1.425 -1.025,-1.425 ; -1.675,1.275 -1.675,1.425 -1.025,1.425 ; 1.025,-1.425 1.675,-1.425 1.675,-1.275 ; 1.025,1.425 1.675,1.425 1.675,1.275
3D body: height 0.86, standoff 0.01, extent -1.5,-1.25 1.5,1.25

## LGA-16 [mm]
pads (16):
  rect 0.4x0.3 smd: 1(0,0) 2(0,-0.5) 3(0,-1) 4(0,-1.5) 5(0,-2) 9(2.45,-2) 10(2.45,-1.5) 11(2.45,-1) 12(2.45,-0.5) 13(2.45,0)
  rect 0.3x0.4 smd: 6(0.725,-2.225) 7(1.225,-2.225) 8(1.725,-2.225) 14(1.725,0.225) 15(1.225,0.225) 16(0.725,0.225)
Top Overlay:
  circle w0.5: c-0.75,0.15 r0.05
  lines w0.2: -0.275,-2.5 -0.275,0.5 2.725,0.5 2.725,-2.5 -0.275,-2.5
3D body: height 1.01, standoff -0.01, extent -0.275,-2.5 2.725,0.5

## LGA-24 [mm]
pads (24):
  rect 0.35x0.2 smd: 1(0,0) 2(0,-0.5) 3(0,-1) 4(0,-1.5) 5(0,-2) 6(0,-2.5) 13(3.45,-2.5) 14(3.45,-2) 15(3.45,-1.5) 16(3.45,-1) 17(3.45,-0.5) 18(3.45,0)
  rect 0.2x0.35 smd: 7(0.475,-2.975) 8(0.975,-2.975) 9(1.475,-2.975) 10(1.975,-2.975) 11(2.475,-2.975) 12(2.975,-2.975) 19(2.975,0.475) 20(2.475,0.475) 21(1.975,0.475) 22(1.475,0.475) 23(0.975,0.475) 24(0.475,0.475)
Top Overlay:
  circle w0.254: c-0.35,0.825 r0.05
  lines w0.2: -0.4,-3.4 3.9,-3.4 3.9,0.889 0.139,0.889 -0.4,0.35 -0.4,-3.4
3D body: height 1.08, standoff 0, extent -0.25,-3.25 3.75,0.75

## UFBGA-100 [mm] "7x7mm, 0.5mm"
pads (100):
  round 0.27 smd: A1(-2.75,2.75) A2(-2.25,2.75) A3(-1.75,2.75) A4(-1.25,2.75) A5(-0.75,2.75) A6(-0.25,2.75) A7(0.25,2.75) A8(0.75,2.75) A9(1.25,2.75) A10(1.75,2.75) A11(2.25,2.75) A12(2.75,2.75) B1(-2.75,2.25) B2(-2.25,2.25) B3(-1.75,2.25) B4(-1.25,2.25) B5(-0.75,2.25) B6(-0.25,2.25) B7(0.25,2.25) B8(0.75,2.25) B9(1.25,2.25) B10(1.75,2.25) B11(2.25,2.25) B12(2.75,2.25) C1(-2.75,1.75) C2(-2.25,1.75) C3(-1.75,1.75) C4(-1.25,1.75) C5(-0.75,1.75) C8(0.75,1.75) C9(1.25,1.75) C10(1.75,1.75) C11(2.25,1.75) C12(2.75,1.75) D1(-2.75,1.25) D2(-2.25,1.25) D3(-1.75,1.25) D10(1.75,1.25) D11(2.25,1.25) D12(2.75,1.25) E1(-2.75,0.75) E2(-2.25,0.75) E3(-1.75,0.75) E10(1.75,0.75) E11(2.25,0.75) E12(2.75,0.75) F1(-2.75,0.25) F2(-2.25,0.25) F11(2.25,0.25) F12(2.75,0.25) G1(-2.75,-0.25) G2(-2.25,-0.25) G11(2.25,-0.25) G12(2.75,-0.25) H1(-2.75,-0.75) H2(-2.25,-0.75) H3(-1.75,-0.75) H10(1.75,-0.75) H11(2.25,-0.75) H12(2.75,-0.75) J1(-2.75,-1.25) J2(-2.25,-1.25) J3(-1.75,-1.25) J10(1.75,-1.25) J11(2.25,-1.25) J12(2.75,-1.25) K1(-2.75,-1.75) K2(-2.25,-1.75) K3(-1.75,-1.75) K4(-1.25,-1.75) K5(-0.75,-1.75) K8(0.75,-1.75) K9(1.25,-1.75) K10(1.75,-1.75) K11(2.25,-1.75) K12(2.75,-1.75) L1(-2.75,-2.25) L2(-2.25,-2.25) L3(-1.75,-2.25) L4(-1.25,-2.25) L5(-0.75,-2.25) L6(-0.25,-2.25) L7(0.25,-2.25) L8(0.75,-2.25) L9(1.25,-2.25) L10(1.75,-2.25) L11(2.25,-2.25) L12(2.75,-2.25) M1(-2.75,-2.75) M2(-2.25,-2.75) M3(-1.75,-2.75) M4(-1.25,-2.75) M5(-0.75,-2.75) M6(-0.25,-2.75) M7(0.25,-2.75) M8(0.75,-2.75) M9(1.25,-2.75) M10(1.75,-2.75) M11(2.25,-2.75) M12(2.75,-2.75)
Top Overlay:
  circle w0.2: c-3.581,3.55 r0.056
  lines w0.2: -3.675,2.7 -3.675,2.775 -2.775,3.675 ; -3.675,-3.575 3.575,-3.575 3.575,3.675 -3.05,3.675 -3.675,3.05 -3.675,-3.575
3D body: height 0.53, standoff 0, extent -3.55,-3.45 3.45,3.55

## UFBGA-176 [mm] "10x10mm, 0.5mm"
pads (201):
  round 0.3 smd: A1(-4.55,4.55) A2(-3.9,4.55) A3(-3.25,4.55) A4(-2.6,4.55) A5(-1.95,4.55) A6(-1.3,4.55) A7(-0.65,4.55) A8(0,4.55) A9(0.65,4.55) A10(1.3,4.55) A11(1.95,4.55) A12(2.6,4.55) A13(3.25,4.55) A14(3.9,4.55) A15(4.55,4.55) B1(-4.55,3.9) B2(-3.9,3.9) B3(-3.25,3.9) B4(-2.6,3.9) B5(-1.95,3.9) B6(-1.3,3.9) B7(-0.65,3.9) B8(0,3.9) B9(0.65,3.9) B10(1.3,3.9) B11(1.95,3.9) B12(2.6,3.9) B13(3.25,3.9) B14(3.9,3.9) B15(4.55,3.9) C1(-4.55,3.25) C2(-3.9,3.25) C3(-3.25,3.25) C4(-2.6,3.25) C5(-1.95,3.25) C6(-1.3,3.25) C7(-0.65,3.25) C8(0,3.25) C9(0.65,3.25) C10(1.3,3.25) C11(1.95,3.25) C12(2.6,3.25) C13(3.25,3.25) C14(3.9,3.25) C15(4.55,3.25) D1(-4.55,2.6) D2(-3.9,2.6) D3(-3.25,2.6) D4(-2.6,2.6) D5(-1.95,2.6) D6(-1.3,2.6) D7(-0.65,2.6) D8(0,2.6) D9(0.65,2.6) D10(1.3,2.6) D11(1.95,2.6) D12(2.6,2.6) D13(3.25,2.6) D14(3.9,2.6) D15(4.55,2.6) E1(-4.55,1.95) E2(-3.9,1.95) E3(-3.25,1.95) E4(-2.6,1.95) E12(2.6,1.95) E13(3.25,1.95) E14(3.9,1.95) E15(4.55,1.95) F1(-4.55,1.3) F2(-3.9,1.3) F3(-3.25,1.3) F4(-2.6,1.3) F6(-1.3,1.3) F7(-0.65,1.3) F8(0,1.3) F9(0.65,1.3) F10(1.3,1.3) F12(2.6,1.3) F13(3.25,1.3) F14(3.9,1.3) F15(4.55,1.3) G1(-4.55,0.65) G2(-3.9,0.65) G3(-3.25,0.65) G4(-2.6,0.65) G6(-1.3,0.65) G7(-0.65,0.65) G8(0,0.65) G9(0.65,0.65) G10(1.3,0.65) G12(2.6,0.65) G13(3.25,0.65) G14(3.9,0.65) G15(4.55,0.65) H1(-4.55,0) H2(-3.9,0) H3(-3.25,0) H4(-2.6,0) H6(-1.3,0) H7(-0.65,0) H8(0,0) H9(0.65,0) H10(1.3,0) H12(2.6,0) H13(3.25,0) H14(3.9,0) H15(4.55,0) J1(-4.55,-0.65) J2(-3.9,-0.65) J3(-3.25,-0.65) J4(-2.6,-0.65) J6(-1.3,-0.65) J7(-0.65,-0.65) J8(0,-0.65) J9(0.65,-0.65) J10(1.3,-0.65) J12(2.6,-0.65) J13(3.25,-0.65) J14(3.9,-0.65) J15(4.55,-0.65) K1(-4.55,-1.3) K2(-3.9,-1.3) K3(-3.25,-1.3) K4(-2.6,-1.3) K6(-1.3,-1.3) K7(-0.65,-1.3) K8(0,-1.3) K9(0.65,-1.3) K10(1.3,-1.3) K12(2.6,-1.3) K13(3.25,-1.3) K14(3.9,-1.3) K15(4.55,-1.3) L1(-4.55,-1.95) L2(-3.9,-1.95) L3(-3.25,-1.95) L4(-2.6,-1.95) L12(2.6,-1.95) L13(3.25,-1.95) L14(3.9,-1.95) L15(4.55,-1.95) M1(-4.55,-2.6) M2(-3.9,-2.6) M3(-3.25,-2.6) M4(-2.6,-2.6) M5(-1.95,-2.6) M6(-1.3,-2.6) M7(-0.65,-2.6) M8(0,-2.6) M9(0.65,-2.6) M10(1.3,-2.6) M11(1.95,-2.6) M12(2.6,-2.6) M13(3.25,-2.6) M14(3.9,-2.6) M15(4.55,-2.6) N1(-4.55,-3.25) N2(-3.9,-3.25) N3(-3.25,-3.25) N4(-2.6,-3.25) N5(-1.95,-3.25) N6(-1.3,-3.25) N7(-0.65,-3.25) N8(0,-3.25) N9(0.65,-3.25) N10(1.3,-3.25) N11(1.95,-3.25) N12(2.6,-3.25) N13(3.25,-3.25) N14(3.9,-3.25) N15(4.55,-3.25) P1(-4.55,-3.9) P2(-3.9,-3.9) P3(-3.25,-3.9) P4(-2.6,-3.9) P5(-1.95,-3.9) P6(-1.3,-3.9) P7(-0.65,-3.9) P8(0,-3.9) P9(0.65,-3.9) P10(1.3,-3.9) P11(1.95,-3.9) P12(2.6,-3.9) P13(3.25,-3.9) P14(3.9,-3.9) P15(4.55,-3.9) R1(-4.55,-4.55) R2(-3.9,-4.55) R3(-3.25,-4.55) R4(-2.6,-4.55) R5(-1.95,-4.55) R6(-1.3,-4.55) R7(-0.65,-4.55) R8(0,-4.55) R9(0.65,-4.55) R10(1.3,-4.55) R11(1.95,-4.55) R12(2.6,-4.55) R13(3.25,-4.55) R14(3.9,-4.55) R15(4.55,-4.55)
Top Overlay:
  circle w0.2: c-5.031,5.025 r0.056
  lines w0.2: -5.075,-5.175 -5.075,4.575 -4.575,5.075 5.175,5.075 5.175,-5.175 -5.075,-5.175
3D body: height 0.5, standoff 0, extent -4.95,-5.05 5.05,4.95

## VFBGA-80, 0.65mm [mm] "BGA, 80-Leads, Body 7x7mmx0,75mm, Pitch 0,65mm"
height 0.75
pads (80):
  round 0.2 smd: A1(-2.925,2.925) A2(-2.275,2.925) A3(-1.625,2.925) A4(-0.975,2.925) A5(-0.325,2.925) A6(0.325,2.925) A7(0.975,2.925) A8(1.625,2.925) A9(2.275,2.925) A10(2.925,2.925) B1(-2.925,2.275) B2(-2.275,2.275) B3(-1.625,2.275) B4(-0.975,2.275) B5(-0.325,2.275) B6(0.325,2.275) B7(0.975,2.275) B8(1.625,2.275) B9(2.275,2.275) B10(2.925,2.275) C1(-2.925,1.625) C2(-2.275,1.625) C9(2.275,1.625) C10(2.925,1.625) D1(-2.925,0.975) D2(-2.275,0.975) D4(-0.975,0.975) D5(-0.325,0.975) D6(0.325,0.975) D7(0.975,0.975) D9(2.275,0.975) D10(2.925,0.975) E1(-2.925,0.325) E2(-2.275,0.325) E4(-0.975,0.325) E5(-0.325,0.325) E6(0.325,0.325) E7(0.975,0.325) E9(2.275,0.325) E10(2.925,0.325) F1(-2.925,-0.325) F2(-2.275,-0.325) F4(-0.975,-0.325) F5(-0.325,-0.325) F6(0.325,-0.325) F7(0.975,-0.325) F9(2.275,-0.325) F10(2.925,-0.325) G1(-2.925,-0.975) G2(-2.275,-0.975) G4(-0.975,-0.975) G5(-0.325,-0.975) G6(0.325,-0.975) G7(0.975,-0.975) G9(2.275,-0.975) G10(2.925,-0.975) H1(-2.925,-1.625) H2(-2.275,-1.625) H9(2.275,-1.625) H10(2.925,-1.625) J1(-2.925,-2.275) J2(-2.275,-2.275) J3(-1.625,-2.275) J4(-0.975,-2.275) J5(-0.325,-2.275) J6(0.325,-2.275) J7(0.975,-2.275) J8(1.625,-2.275) J9(2.275,-2.275) J10(2.925,-2.275) K1(-2.925,-2.925) K2(-2.275,-2.925) K3(-1.625,-2.925) K4(-0.975,-2.925) K5(-0.325,-2.925) K6(0.325,-2.925) K7(0.975,-2.925) K8(1.625,-2.925) K9(2.275,-2.925) K10(2.925,-2.925)
Top Overlay:
  circle w0.25: c-4.15,3.35 r0.125
  region: -3.092,3.5 -3.5,3.092 -3.5,3.5
  lines w0.2: -3.5,3.092 -3.092,3.5 ; -3.5,-3.5 -3.5,3.5 3.5,3.5 3.5,-3.5 -3.5,-3.5
3D body: height 0.75, standoff 0.25, extent -3.5,-3.5 3.5,3.5

## WLCSP-49 [mm] "3x3mm, 0.4mm"
pads (49):
  round 0.25 smd: A1(-1.2,1.2) A2(-0.8,1.2) A3(-0.4,1.2) A4(0,1.2) A5(0.4,1.2) A6(0.8,1.2) A7(1.2,1.2) B1(-1.2,0.8) B2(-0.8,0.8) B3(-0.4,0.8) B4(0,0.8) B5(0.4,0.8) B6(0.8,0.8) B7(1.2,0.8) C1(-1.2,0.4) C2(-0.8,0.4) C3(-0.4,0.4) C4(0,0.4) C5(0.4,0.4) C6(0.8,0.4) C7(1.2,0.4) D1(-1.2,0) D2(-0.8,0) D3(-0.4,0) D4(0,0) D5(0.4,0) D6(0.8,0) D7(1.2,0) E1(-1.2,-0.4) E2(-0.8,-0.4) E3(-0.4,-0.4) E4(0,-0.4) E5(0.4,-0.4) E6(0.8,-0.4) E7(1.2,-0.4) F1(-1.2,-0.8) F2(-0.8,-0.8) F3(-0.4,-0.8) F4(0,-0.8) F5(0.4,-0.8) F6(0.8,-0.8) F7(1.2,-0.8) G1(-1.2,-1.2) G2(-0.8,-1.2) G3(-0.4,-1.2) G4(0,-1.2) G5(0.4,-1.2) G6(0.8,-1.2) G7(1.2,-1.2)
Top Overlay:
  circle w0.2: c-1.606,1.7 r0.056
  lines w0.254: -1.625,-1.725 -1.625,1.275 -1.175,1.725 1.625,1.725 1.625,-1.725 -1.625,-1.725
3D body: height 0.5, standoff 0, extent -1.5,-1.6 1.5,1.6